# Altium footprint library PcbLib1.PcbLib: 22 footprints (part 2 of 2)
Each footprint in its own frame and in the unit in brackets; x right, y up, seen from the top. Pads: shape width x height; smd on the part's side, far side on the other; paste and mask are expansions set on the pad; w line width, h text height; cw(c..) or ccw(c..) is an arc to the next point about the centre after c.
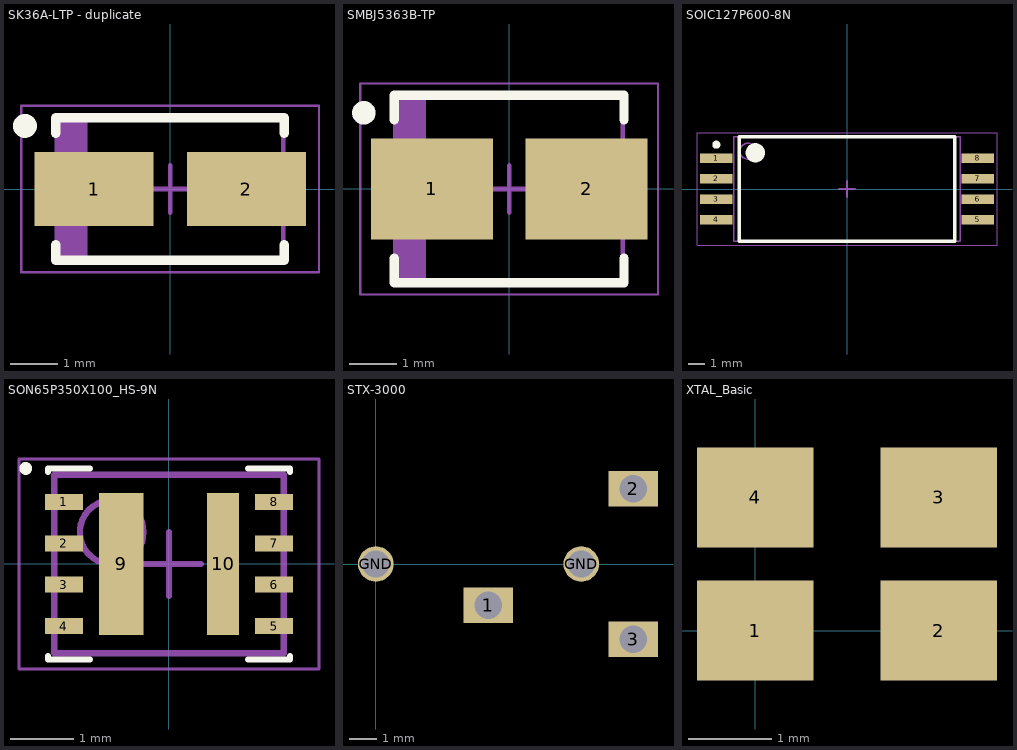
[diagram p1: the footprints below, top view; thin cyan lines are the x and y axes]

## SK36A-LTP - duplicate [mm] "Molded Diode, 2-Leads, Body 4.38x2.59mm, IPC Medium Density"
height 2.44
pads (2):
  rect 2.5x1.55 smd: 1(-1.6,0) 2(1.6,0)
Top Overlay:
  circle w0.25: c-3.05,1.325 r0.125
  lines w0.2: -2.4,-1.175 -2.4,-1.5 2.4,-1.5 2.4,-1.175 ; -2.4,1.175 -2.4,1.5 2.4,1.5 2.4,1.175
Mechanical 13:
  rectangle: -2.375,-1.46 -1.736,1.46
  lines w0.1: -2.375,-1.46 2.375,-1.46 2.375,1.46 -2.375,1.46 -2.375,-1.46
Mechanical 15:
  lines w0.05: -3.125,-1.75 3.125,-1.75 3.125,1.75 -3.125,1.75 -3.125,-1.75
  lines w0.1: -0.5,0 0.5,0 ; 0,-0.5 0,0.5
3D body "DIOM4426X24N.step": height 2.44, standoff 0, extent -2.595,-1.46 2.595,1.46

## SMBJ5363B-TP [mm] "Molded Diode, 2-Leads, Body 4.46x3.62mm, IPC Medium Density"
height 2.62
pads (2):
  rect 2.6x2.15 smd: 1(-1.65,0) 2(1.65,0)
Top Overlay:
  circle w0.25: c-3.1,1.625 r0.125
  lines w0.2: -2.45,-1.475 -2.45,-2 2.45,-2 2.45,-1.475 ; -2.45,1.475 -2.45,2 2.45,2 2.45,1.475
Mechanical 13:
  rectangle: -2.425,-1.97 -1.773,1.97
  lines w0.1: -2.425,-1.97 -2.425,1.97 2.425,1.97 2.425,-1.97 -2.425,-1.97
Mechanical 15:
  lines w0.05: -3.175,-2.25 -3.175,2.25 3.175,2.25 3.175,-2.25 -3.175,-2.25
  lines w0.1: -0.5,0 0.5,0 ; 0,-0.5 0,0.5
3D body "SMBJ5363B-TP.step": height 2.62, standoff 0, extent -2.645,-1.97 2.645,1.97

## SOIC127P600-8N [mm]
height 4.04
pads (8):
  rect 2x0.6 smd: 1(-8.125,1.905) 2(-8.125,0.635) 3(-8.125,-0.635) 4(-8.125,-1.905) 5(8.125,-1.905) 6(8.125,-0.635) 7(8.125,0.635) 8(8.125,1.905)
Top Overlay:
  circle w0.6: c-5.7,2.25 r0.3
  circle w0.25: c-8.125,2.755 r0.125
  lines w0.2: -6.7,-3.25 6.7,-3.25 6.7,3.25 -6.7,3.25 -6.7,-3.25
Mechanical 13:
  circle w0.1: c-6.15,2.35 r0.5
  lines w0.1: -7.05,-3.25 7.05,-3.25 7.05,3.25 -7.05,3.25 -7.05,-3.25
Mechanical 15:
  lines w0.05: -9.325,-3.5 9.325,-3.5 9.325,3.5 -9.325,3.5 -9.325,-3.5
  lines w0.1: -0.5,0 0.5,0 ; 0,-0.5 0,0.5
3D body "SOIC127P600-8N.step": height 4.03, standoff 0, extent -8.625,-3.25 8.625,3.25

## SON65P350X100_HS-9N [mm] "SON, 8-Leads, Body 2.70x3.50mm, Pitch 0.65mm, Thermal Pad 2.23x0.70mm, IPC Medium Density"
height 1
pads (10):
  rect 0.6x0.25 smd: 1(-1.65,0.975) 2(-1.65,0.325) 3(-1.65,-0.325) 4(-1.65,-0.975) 5(1.65,-0.975) 6(1.65,-0.325) 7(1.65,0.325) 8(1.65,0.975)
  rect 0.7x2.23 smd: 9(-0.75,0)
  rect 0.5x2.23 smd: 10(0.85,0)
Top Overlay:
  circle w0.1: c-2.25,1.5 r0.05
  lines w0.1: -1.9,-1.45 -1.9,-1.5 -1.245,-1.5 ; -1.9,1.45 -1.9,1.5 -1.245,1.5 ; 1.245,-1.5 1.9,-1.5 1.9,-1.45 ; 1.245,1.5 1.9,1.5 1.9,1.45
Mechanical 13:
  circle w0.1: c-0.9,0.5 r0.5
  lines w0.1: -1.8,-1.4 -1.8,1.4 1.8,1.4 1.8,-1.4 -1.8,-1.4
Mechanical 15:
  lines w0.05: -2.355,-1.65 -2.355,1.65 2.355,1.65 2.355,-1.65 -2.355,-1.65
  lines w0.1: -0.5,0 0.5,0 ; 0,-0.5 0,0.5
3D body "SON65P350X100_HS-9N.step": height 1, standoff 0, extent -1.801,-1.4 1.801,1.4

## STX-3000 [mm]
pads (5):
  rect 1.8x1.3 / inner rect 1.6x1.1 / far side rect 1.8x1.3 hole 1 square: 1(4.1,-1.5) 2(9.4,2.75) 3(9.4,-2.75)
  round 1.3 / inner rect 2.5x2.5 / far side round 1.3 hole 1: GND(0,0) GND(7.5,0)
3D body "STX-3000_rD3_1782018533.214.step": height 5.9, standoff -2.8, extent -4,-3.644 10,3.556

## XTAL_Basic [mm]
pads (4):
  rect 1.4x1.2 smd: 1(0,0) 2(2.2,0) 3(2.2,1.6) 4(0,1.6)